# Altium schematic symbol library SCH-MCU-WCH-CH541T-TSSOP20-4.4.SchLib: 2 symbols
Pins are listed as number, name and electrical type; pins without a type are passive.

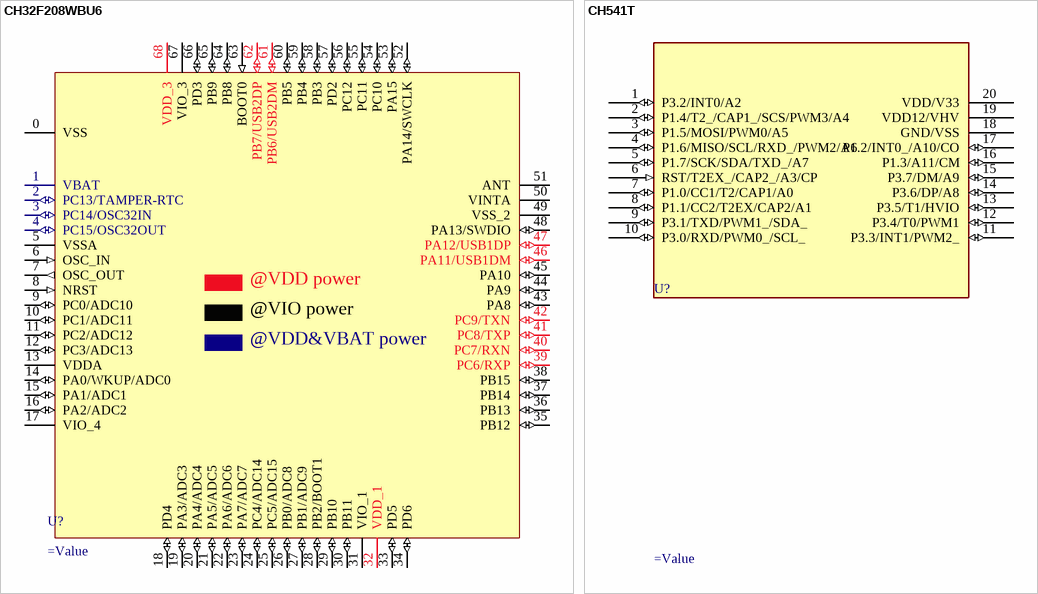
[diagram p0: symbols CH32F208WBU6 to CH541T]

## CH32F208WBU6
designator U?
pins: 0 VSS (power), 1 VBAT (power), 2 PC13/TAMPER-RTC (io), 3 PC14/OSC32IN (io), 4 PC15/OSC32OUT (io), 5 VSSA (power), 6 OSC_IN (in), 7 OSC_OUT (out), 8 NRST (in), 9 PC0/ADC10 (io), 10 PC1/ADC11 (io), 11 PC2/ADC12 (io), 12 PC3/ADC13 (io), 13 VDDA (power), 14 PA0/WKUP/ADC0 (io), 15 PA1/ADC1 (io), 16 PA2/ADC2 (io), 17 VIO_4 (power), 18 PD4 (io), 19 PA3/ADC3 (io), 20 PA4/ADC4 (io), 21 PA5/ADC5 (io), 22 PA6/ADC6 (io), 23 PA7/ADC7 (io), 24 PC4/ADC14 (io), 25 PC5/ADC15 (io), 26 PB0/ADC8 (io), 27 PB1/ADC9 (io), 28 PB2/BOOT1 (io), 29 PB10 (io), 30 PB11 (io), 31 VIO_1 (power), 32 VDD_1 (power), 33 PD5 (io), 34 PD6 (io), 35 PB12 (io), 36 PB13 (io), 37 PB14 (io), 38 PB15 (io), 39 PC6/RXP (io), 40 PC7/RXN (io), 41 PC8/TXP (io), 42 PC9/TXN (io), 43 PA8 (io), 44 PA9 (io), 45 PA10 (io), 46 PA11/USB1DM (io), 47 PA12/USB1DP (io), 48 PA13/SWDIO (io), 49 VSS_2 (power), 50 VINTA (power), 51 ANT (power), 52 PA14/SWCLK (io), 53 PA15 (io), 54 PC10 (io), 55 PC11 (io), 56 PC12 (io), 57 PD2 (io), 58 PB3 (io), 59 PB4 (io), 60 PB5 (io), 61 PB6/USB2DM (io), 62 PB7/USB2DP (io), 63 BOOT0 (in), 64 PB8 (io), 65 PB9 (io), 66 PD3 (io), 67 VIO_3 (power), 68 VDD_3 (power)
text: @VDD power; @VIO power; @VDD&VBAT power

## CH541T
designator U?
pins: 1 P3.2/INT0/A2 (io), 2 P1.4/T2_/CAP1_/SCS/PWM3/A4 (io), 3 P1.5/MOSI/PWM0/A5 (io), 4 P1.6/MISO/SCL/RXD_/PWM2/A6 (io), 5 P1.7/SCK/SDA/TXD_/A7 (io), 6 RST/T2EX_/CAP2_/A3/CP (in), 7 P1.0/CC1/T2/CAP1/A0 (io), 8 P1.1/CC2/T2EX/CAP2/A1 (io), 9 P3.1/TXD/PWM1_/SDA_ (io), 10 P3.0/RXD/PWM0_/SCL_ (io), 11 P3.3/INT1/PWM2_ (io), 12 P3.4/T0/PWM1 (io), 13 P3.5/T1/HVIO (io), 14 P3.6/DP/A8 (io), 15 P3.7/DM/A9 (io), 16 P1.3/A11/CM (io), 17 P1.2/INT0_/A10/CO (io), 18 GND/VSS (power), 19 VDD12/VHV (power), 20 VDD/V33 (power)
2 alternate drawings of the same symbol